# Altium schematic symbol library BOTS.SchLib: 7 symbols
Pins are listed as number, name and electrical type; pins without a type are passive.

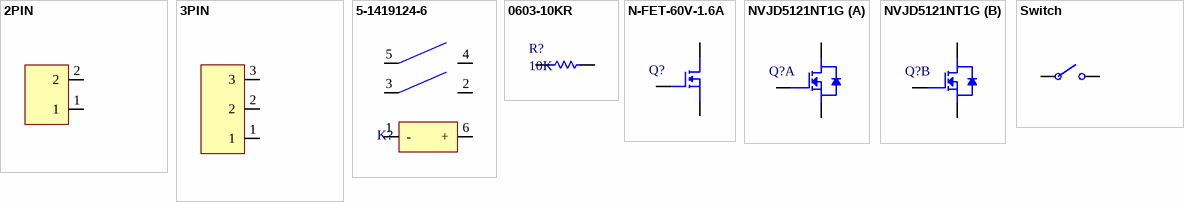
[diagram p0: symbols 2PIN to Switch]

## 2PIN
designator J?, comment 103638-1
CONN HEADER VERT 2POS 2.54MM; Manufacturer: TE Connectivity; Current Rating: 3A; Number of Contacts: 2; Connector Type: Plug,Header,Pin; Insulation Resistance: 5GR; Backwall/Post Interruptions: No (Without); Contact Retention: Yes (With); PCB Mount Retention: Without; PCB Mounting Orientation: Vertical; Contact Resistance: 15mR; Gender: Male; Voltage Rating: 600V; Row Spacing: 0.1inch; Plating Thickness: 2.54um; Tail Length: 3.3mm; Approvals: CSA; Supplier 1: Digi-Key; Manufacturer Part Number: 103638-1; Stock 1: 3265; Pricing 1: 1=0.77, 10=0.725, 100=0.5555, 500=0.48306, 1000=0.39852, 5000=0.35022, 10000=0.32607 (USD); Mount: Through Hole; Color: Black; Contact Plating: Gold,Tin,Lead,Matte; Contact Material: Brass; Housing Material: Thermoplastic; Housing Color: Black; Contact Shape: Square; Min Operating Temperature: -65°C; Max Operating Temperature: 105°C; Package Quantity: 72; Packaging: Rail/Tube; Termination: Crimp; Series: AMPMODU MTE; Number of Rows: 1; Orientation: Straight; Contact Gender: Male; Number of Positions: 2; Contact Current Rating: 3A; Mating Alignment: Yes (With); Mating Retention: Yes (With); PCB Mount Alignment: No (Without); Strain Relief: No (Without); Contact Type: Male Pin; Length: 7.62mm; Width: 0.3inch; Height: 13.59mm; Depth: 6.98mm; Pitch: 2.54mm; Contact Mating Length: 0.23inch; Radiation Hardening: No; Flammability Rating: UL94 V-0; ELV: Non-Compliant; Lead Free: Contains Lead; REACH SVHC: No SVHC; ComponentLink1URL: http://www.te.com/commerce/DocumentDelivery/DDEController?Action=showdoc&DocId=Data+Sheet%7F4-1773458-0_AMPMODU_MTE_INTERCONNECT_SYS%7F0810%7Fpdf%7FEnglish%7FENG_DS_4-1773458-0_AMPMODU_MTE_INTERCONNECT_SYS_0810.pdf%7F104363-8&src-supplier=Avnet; ComponentLink1Description: http://www.te.com/commerce/DocumentDelivery/DDEController?Action=showdoc&DocId=Data+Sheet%7F4-1773458-0_AMPMODU_MTE_INTERCONNECT_SYS%7F0810%7Fpdf%7FEnglish%7FENG_DS_4-1773458-0_AMPMODU_MTE_INTERCONNECT_SYS_0810.pdf%7F104363-8&src-supplier=Avnet; ComponentLink2URL: http://www.te.com/commerce/DocumentDelivery/DDEController?Action=showdoc&DocId=Data+Sheet%7F4-1773458-0_AMPMODU_MTE_INTERCONNECT_SYS%7F0411%7Fpdf%7FEnglish%7FENG_DS_4-1773458-0_AMPMODU_MTE_INTERCONNECT_SYS_0411.pdf%7F103638-1&src-supplier=Future+Electronics; ComponentLink2Description: http://www.te.com/commerce/DocumentDelivery/DDEController?Action=showdoc&DocId=Data+Sheet%7F4-1773458-0_AMPMODU_MTE_INTERCONNECT_SYS%7F0411%7Fpdf%7FEnglish%7FENG_DS_4-1773458-0_AMPMODU_MTE_INTERCONNECT_SYS_0411.pdf%7F103638-1&src-supplier=Future+Electronics; ComponentLink3URL: https://www.verical.com/server-webapp/html/getDatasheet?partID=237168&src-supplier=Verical; ComponentLink3Description: https://www.verical.com/server-webapp/html/getDatasheet?partID=237168&src-supplier=Verical; ComponentLink4URL: https://www.alliedelec.com/m/d/454cd58767cb456274f3716a0303ed50.pdf?src-supplier=Allied+Electronics; ComponentLink4Description: https://www.alliedelec.com/m/d/454cd58767cb456274f3716a0303ed50.pdf?src-supplier=Allied+Electronics; ComponentLink5URL: http://www.jameco.com/Jameco/Products/ProdDS/738013.pdf?src-supplier=Jameco; ComponentLink5Description: http://www.jameco.com/Jameco/Products/ProdDS/738013.pdf?src-supplier=Jameco; ComponentLink6URL: https://www.te.com/commerce/DocumentDelivery/DDEController?Action=srchrtrv&amp;DocNm=103638&amp;DocType=Customer+Drawing&amp;DocLang=English&src-supplier=Digi-Key; ComponentLink6Description: https://www.te.com/commerce/DocumentDelivery/DDEController?Action=srchrtrv&amp;DocNm=103638&amp;DocType=Customer+Drawing&amp;DocLang=English&src-supplier=Digi-Key; Supplier Part Number 1: A28524-ND
footprint 2PIN
pins: 1, 2

## 3PIN
designator J?, comment 103638-2
CONN HEADER VERT 3POS 2.54MM; Manufacturer: TE Connectivity; Number of Positions: 3; Insulation Resistance: 5GR; Current Rating: 3A; Connector Type: Plug,Header,Pin; Mating Alignment: Yes (With); Backwall/Post Interruptions: No (Without); PCB Mount Retention: Without; PCB Mounting Orientation: Vertical; Contact Resistance: 15mR; Gender: Male; Voltage Rating: 267V; Row Spacing: 0.1inch; Plating Thickness: 2.54um; Tail Length: 3.3mm; Approvals: CSA; Supplier 1: Digi-Key; Manufacturer Part Number: 103638-2; Stock 1: 0; Pricing 1: 1=0.8, 10=0.7, 100=0.6037, 500=0.49394, 1000=0.43905, 5000=0.38417, 10000=0.36496 (USD); Mount: Through Hole; Color: Black; Housing Color: Black; Housing Material: Thermoplastic; Contact Material: Brass; Contact Plating: Gold,Tin,Lead,Matte; Contact Shape: Square; Min Operating Temperature: -65°C; Max Operating Temperature: 105°C; Packaging: Rail/Tube; Number of Rows: 1; Package Quantity: 54; Series: AMPMODU MTE; Termination: Crimp; Number of Contacts: 3; Orientation: Straight; Contact Current Rating: 3A; Mating Retention: Yes (With); Contact Gender: Male; Contact Retention: Yes (With); PCB Mount Alignment: No (Without); Strain Relief: No (Without); Contact Type: Male Pin; Length: 0.4inch; Width: 0.4inch; Height: 13.59mm; Pitch: 2.54mm; Depth: 6.98mm; Contact Mating Length: 0.23inch; Radiation Hardening: No; Flammability Rating: UL94 V-0; ELV: Non-Compliant; Lead Free: Contains Lead; REACH SVHC: No SVHC; RoHS Compliant: No; ComponentLink1URL: http://www.te.com/commerce/DocumentDelivery/DDEController?Action=showdoc&DocId=Data+Sheet%7F4-1773458-0_AMPMODU_MTE_INTERCONNECT_SYS%7F0810%7Fpdf%7FEnglish%7FENG_DS_4-1773458-0_AMPMODU_MTE_INTERCONNECT_SYS_0810.pdf%7F104363-8&src-supplier=Avnet; ComponentLink1Description: http://www.te.com/commerce/DocumentDelivery/DDEController?Action=showdoc&DocId=Data+Sheet%7F4-1773458-0_AMPMODU_MTE_INTERCONNECT_SYS%7F0810%7Fpdf%7FEnglish%7FENG_DS_4-1773458-0_AMPMODU_MTE_INTERCONNECT_SYS_0810.pdf%7F104363-8&src-supplier=Avnet; ComponentLink2URL: http://www1.futureelectronics.com/doc/TYCO%20ELECTRONICS/103638-2.pdf?src-supplier=Future+Electronics; ComponentLink2Description: http://www1.futureelectronics.com/doc/TYCO%20ELECTRONICS/103638-2.pdf?src-supplier=Future+Electronics; ComponentLink3URL: https://www.verical.com/server-webapp/html/getDatasheet?partID=198760&src-supplier=Verical; ComponentLink3Description: https://www.verical.com/server-webapp/html/getDatasheet?partID=198760&src-supplier=Verical; ComponentLink4URL: http://www.te.com/commerce/DocumentDelivery/DDEController?Action=showdoc&DocId=Data+Sheet%7F4-1773458-0_AMPMODU_MTE_INTERCONNECT_SYS%7F0810%7Fpdf%7FEnglish%7FENG_DS_4-1773458-0_AMPMODU_MTE_INTERCONNECT_SYS_0810.pdf%7F104363-8&src-supplier=Avnet+Asia; ComponentLink4Description: http://www.te.com/commerce/DocumentDelivery/DDEController?Action=showdoc&DocId=Data+Sheet%7F4-1773458-0_AMPMODU_MTE_INTERCONNECT_SYS%7F0810%7Fpdf%7FEnglish%7FENG_DS_4-1773458-0_AMPMODU_MTE_INTERCONNECT_SYS_0810.pdf%7F104363-8&src-supplier=Avnet+Asia; ComponentLink5URL: https://www.alliedelec.com/m/d/494b66edc3896904f54da7132ef2a22d.pdf?src-supplier=Allied+Electronics; ComponentLink5Description: https://www.alliedelec.com/m/d/494b66edc3896904f54da7132ef2a22d.pdf?src-supplier=Allied+Electronics; ComponentLink6URL: http://www.jameco.com/Jameco/Products/ProdDS/738021.pdf?src-supplier=Jameco; ComponentLink6Description: http://www.jameco.com/Jameco/Products/ProdDS/738021.pdf?src-supplier=Jameco; ComponentLink7URL: http://www.te.com/commerce/DocumentDelivery/DDEController?Action=srchrtrv&DocNm=103638&DocType=Customer+Drawing&DocLang=English&src-supplier=Digi-Key; ComponentLink7Description: http://www.te.com/commerce/DocumentDelivery/DDEController?Action=srchrtrv&DocNm=103638&DocType=Customer+Drawing&DocLang=English&src-supplier=Digi-Key; Supplier Part Number 1: A28527-ND
footprint 3PIN
pins: 1, 2, 3

## 5-1419124-6
designator K?  (value not drawn)
General Purpose Relay, Osa Series, Power, Non Latching, Dpst-No, 12 Vdc, 3 A Rohs Compliant: Yes; Manufacturer: TE Connectivity; Contact Current Rating: 3A; Coil Current: 45mA; Throw Configuration: DPST; Operate Time: 20ms; Release Time: 10ms; Coil Power: 600mW; Coil Resistance: 270R; Coil Type: Non-Latching; Coil Voltage (DC): 12V; Contact Voltage Rating (AC): 240V; Supplier 1: Digi-Key; Manufacturer Part Number: 5-1419124-6; Stock 1: 2593; Pricing 1: 1=2.54, 10=2.385, 25=2.1204, 50=2.0142, 100=1.9083, 250=1.69624, 500=1.59022, 1000=1.48421, 5000=1.4312 (USD); Mount: Through Hole; Weight: 13g; Contact Material: Silver; Min Operating Temperature: -30°C; Max Operating Temperature: 60°C; Package Quantity: 1000; Packaging: Box; Termination: PCB; Relay Type: General Purpose; Length: 24.4mm; Height: 0.976inch; Width: 12.9mm; ELV: Compliant; REACH SVHC: Unknown; ComponentLink1URL: http://www.farnell.com/datasheets/1652820.pdf?src-supplier=Farnell; ComponentLink1Description: http://www.farnell.com/datasheets/1652820.pdf?src-supplier=Farnell; ComponentLink2URL: http://www.farnell.com/cad/1652820.pdf?src-supplier=Element14; ComponentLink2Description: http://www.farnell.com/cad/1652820.pdf?src-supplier=Element14; ComponentLink3URL: http://www.te.com/commerce/DocumentDelivery/DDEController?Action=srchrtrv&DocNm=5-1419124-6&DocType=Customer+Drawing&DocLang=English&src-supplier=Digi-Key; ComponentLink3Description: http://www.te.com/commerce/DocumentDelivery/DDEController?Action=srchrtrv&DocNm=5-1419124-6&DocType=Customer+Drawing&DocLang=English&src-supplier=Digi-Key; Supplier Part Number 1: OSA-SS-212DM3,000-ND; Category: Relays
footprint RELAY DPST SDC
pins: 1 -, 2, 3, 4, 5, 6 +

## 0603-10KR
designator R?, comment 10K
RES SMD 10K OHM 5% 1/10W 0603; Manufacturer: Yageo; Manufacturer Part Number: RC0603JR-0710KL; Resistance: 10kR; Voltage Rating (DC): 50V; Temperature Coefficient: 100ppm/°C; Power Rating: 100mW; Supplier 1: Digi-Key; Stock 1: 3006558; Pricing 1: 1=0.1, 10=0.019, 100=0.0077, 1000=0.00347, 2500=0.00301 (USD); Case/Package: 0603; Number of Pins: 2; Contact Plating: Tin,Matte; Case Code (Imperial): 0603; Case Code (Metric): 1608; Min Operating Temperature: -55°C; Max Operating Temperature: 155°C; Packaging: Tape and Reel; Tolerance: 5%; Composition: Thick Film; Voltage Rating: 50V; Termination: SMD/SMT; Military Standard: Not; Features: Moisture Resistant; Max Power Dissipation: 100mW; Number of Terminations: 2; Length: 0.063inch; Width: 0.031inch; Depth: 0.8mm; Height - Seated (Max): 0.022inch; Radiation Hardening: No; REACH SVHC: Unknown; Lead Free: Lead Free; ComponentLink1URL: http://www.yageo.com/documents/recent/PYu-RC_Group_51_RoHS_L_10.pdf?src-supplier=Digi-Key; ComponentLink1Description: http://www.yageo.com/documents/recent/PYu-RC_Group_51_RoHS_L_10.pdf?src-supplier=Digi-Key; Supplier Part Number 1: 311-10KGRDKR-ND
footprint RES-0603 (Chip Resistor, 2-Leads, Body 1.60x0.80mm, IPC Medium Density)
pins: 1, 2

## N-FET-60V-1.6A
designator Q?, comment DMN6140L-13DICT-ND  (value not drawn)
MOSFET N-CH 60V 1.6A SOT23; Manufacturer: Diodes; Rds On Max: 140mR; Input Capacitance: 315pF; Max Power Dissipation: 700mW; Supplier 1: Digi-Key; Manufacturer Part Number: DMN6140L-13; Stock 1: 274948; Pricing 1: 1=0.34, 10=0.256, 25=0.224, 100=0.1217, 250=0.12104, 500=0.09926, 1000=0.07365, 2500=0.06468, 5000=0.05924 (USD); Mount: Surface Mount; Case/Package: TO-236-3; Min Operating Temperature: -55°C; Max Operating Temperature: 150°C; Package Quantity: 10000; Packaging: Cut Tape; Drain to Source Voltage (Vdss): 60V; Continuous Drain Current (ID): 1.6A; ComponentLink1URL: https://www.diodes.com/assets/Datasheets/DMN6140L.pdf?src-supplier=Digi-Key; ComponentLink1Description: https://www.diodes.com/assets/Datasheets/DMN6140L.pdf?src-supplier=Digi-Key; Supplier Part Number 1: DMN6140L-13DIDKR-ND
footprint SOT-23-3 (SOT23, 3-Leads, Body 2.90x2.40mm, Pitch 0.92mm, IPC Medium Density)
pins: 1, 2, 3

## NVJD5121NT1G
designator Q?  (value not drawn)
MOSFET 2N-CH 60V 0.295A SC88; Manufacturer: ON Semiconductor; Continuous Drain Current (ID): 295mA; Rds On Max: 1.6R; Input Capacitance: 26pF; Max Power Dissipation: 250mW; Number of Channels: 2; Drain to Source Resistance: 1R; Gate to Source Voltage (Vgs): 20V; Fall Time: 32ns; Rise Time: 34ns; Turn-On Delay Time: 22ns; FET Type: 2 N-Channel; ComponentLink1URL: https://toshiba.semicon-storage.com/info/docget.jsp?did=29875&prodName=SSM6N7002CFU&src-supplier=Digi-Key; ComponentLink1Description: https://toshiba.semicon-storage.com/info/docget.jsp?did=29875&prodName=SSM6N7002CFU&src-supplier=Digi-Key; ComponentLink2URL: http://www.mouser.com/ds/2/408/SSM6N7002CFU_datasheet_en_20150413-736631.pdf?src-supplier=Mouser; ComponentLink2Description: http://www.mouser.com/ds/2/408/SSM6N7002CFU_datasheet_en_20150413-736631.pdf?src-supplier=Mouser; Supplier 1: Digi-Key; Manufacturer Part Number: NVJD5121NT1G; Stock 1: 6722; Pricing 1: 1=0.41, 10=0.309, 25=0.2784, 100=0.1923, 500=0.13156, 1000=0.1012 (USD); Mount: Surface Mount; Case/Package: SOT-363-6; Min Operating Temperature: -55°C; Max Operating Temperature: 150°C; Packaging: Tape and Reel; Drain to Source Voltage (Vdss): 60V; Drain to Source Breakdown Voltage: 60V; Package Quantity: 3000; Turn-Off Delay Time: 34ns; Lead Free: Lead Free; RoHS Compliant: Yes; ComponentLink3URL: http://www.farnell.com/datasheets/1965460.pdf?src-supplier=Newark; ComponentLink3Description: http://www.farnell.com/datasheets/1965460.pdf?src-supplier=Newark; ComponentLink4URL: http://www.farnell.com/datasheets/1965460.pdf?src-supplier=Farnell; ComponentLink4Description: http://www.farnell.com/datasheets/1965460.pdf?src-supplier=Farnell; ComponentLink5URL: http://www.mouser.com/ds/2/308/NVJD5121N-D-463750.pdf?src-supplier=Mouser; ComponentLink5Description: http://www.mouser.com/ds/2/308/NVJD5121N-D-463750.pdf?src-supplier=Mouser; ComponentLink6URL: http://www.onsemi.com/pub/Collateral/NVJD5121N-D.PDF?src-supplier=Avnet; ComponentLink6Description: http://www.onsemi.com/pub/Collateral/NVJD5121N-D.PDF?src-supplier=Avnet; ComponentLink7URL: http://www.onsemi.com/pub/Collateral/NTJD5121N-D.PDF?src-supplier=Digi-Key; ComponentLink7Description: http://www.onsemi.com/pub/Collateral/NTJD5121N-D.PDF?src-supplier=Digi-Key; Supplier Part Number 1: NVJD5121NT1GOSDKR-ND
footprint SC-88 (SOT23, 6-Leads, Body 2.00x2.10mm, Pitch 0.65mm, IPC Medium Density)
part A pins: 1 S1, 2 G1, 6 D1
part B pins: 3 D2, 4 S2, 5 G2

## Switch
designator SW?, comment NC
SWITCH SNAP ACT SPST-NC 5A 125V; Manufacturer: Omron; Manufacturer Part Number: SS-5GL-F-2T; Mechanical Life: 30000000Cycles; Voltage Rating (DC): 30V; Throw Configuration: SPST; Operating Force: 0.16N; Max Voltage Rating (DC): 14V; Current Rating: 4A; Electrical Life: 200000Cycles; Differential Travel: 0.031inch; Overtravel: 0.047inch; Operating Position: 0.345inch; Switch Function: On-Mom; Ratings: IP40; Supplier 1: Digi-Key; Stock 1: 392; Pricing 1: 1=1.99, 10=1.836, 25=1.7216, 50=1.6832, 100=1.3389, 250=1.26236, 500=1.18586, 1000=1.10936, 5000=1.03285 (USD); Mount: Chassis Mount,Screw; Contact Material: Silver; Min Operating Temperature: -25°C; Max Operating Temperature: 85°C; Voltage Rating (AC): 125V; Packaging: Bulk; Max Voltage Rating (AC): 125V; Package Quantity: 500; Termination: Quick Connect; Orientation: Straight; Series: SS; Radiation Hardening: No; RoHS Compliant: Yes; ComponentLink1URL: https://www.components.omron.com/components/web/pdflib.nsf/0/80FC48E7A8A557A885257201007DD493/$file/SS_1110.pdf?src-supplier=Avnet; ComponentLink1Description: https://www.components.omron.com/components/web/pdflib.nsf/0/80FC48E7A8A557A885257201007DD493/$file/SS_1110.pdf?src-supplier=Avnet; ComponentLink2URL: http://www.components.omron.com/components/web/PDFLIB.nsf/0/80FC48E7A8A557A885257201007DD493/$file/SS_1110.pdf?src-supplier=Digi-Key; ComponentLink2Description: http://www.components.omron.com/components/web/PDFLIB.nsf/0/80FC48E7A8A557A885257201007DD493/$file/SS_1110.pdf?src-supplier=Digi-Key; Supplier Part Number 1: Z4584-ND
footprint Switch
pins: 1, 2